# Altium footprint library ERN.PcbLib: 34 footprints (part 1 of 3)
Each footprint in its own frame and in the unit in brackets; x right, y up, seen from the top. Pads: shape width x height; smd on the part's side, far side on the other; paste and mask are expansions set on the pad; w line width, h text height; cw(c..) or ccw(c..) is an arc to the next point about the centre after c.
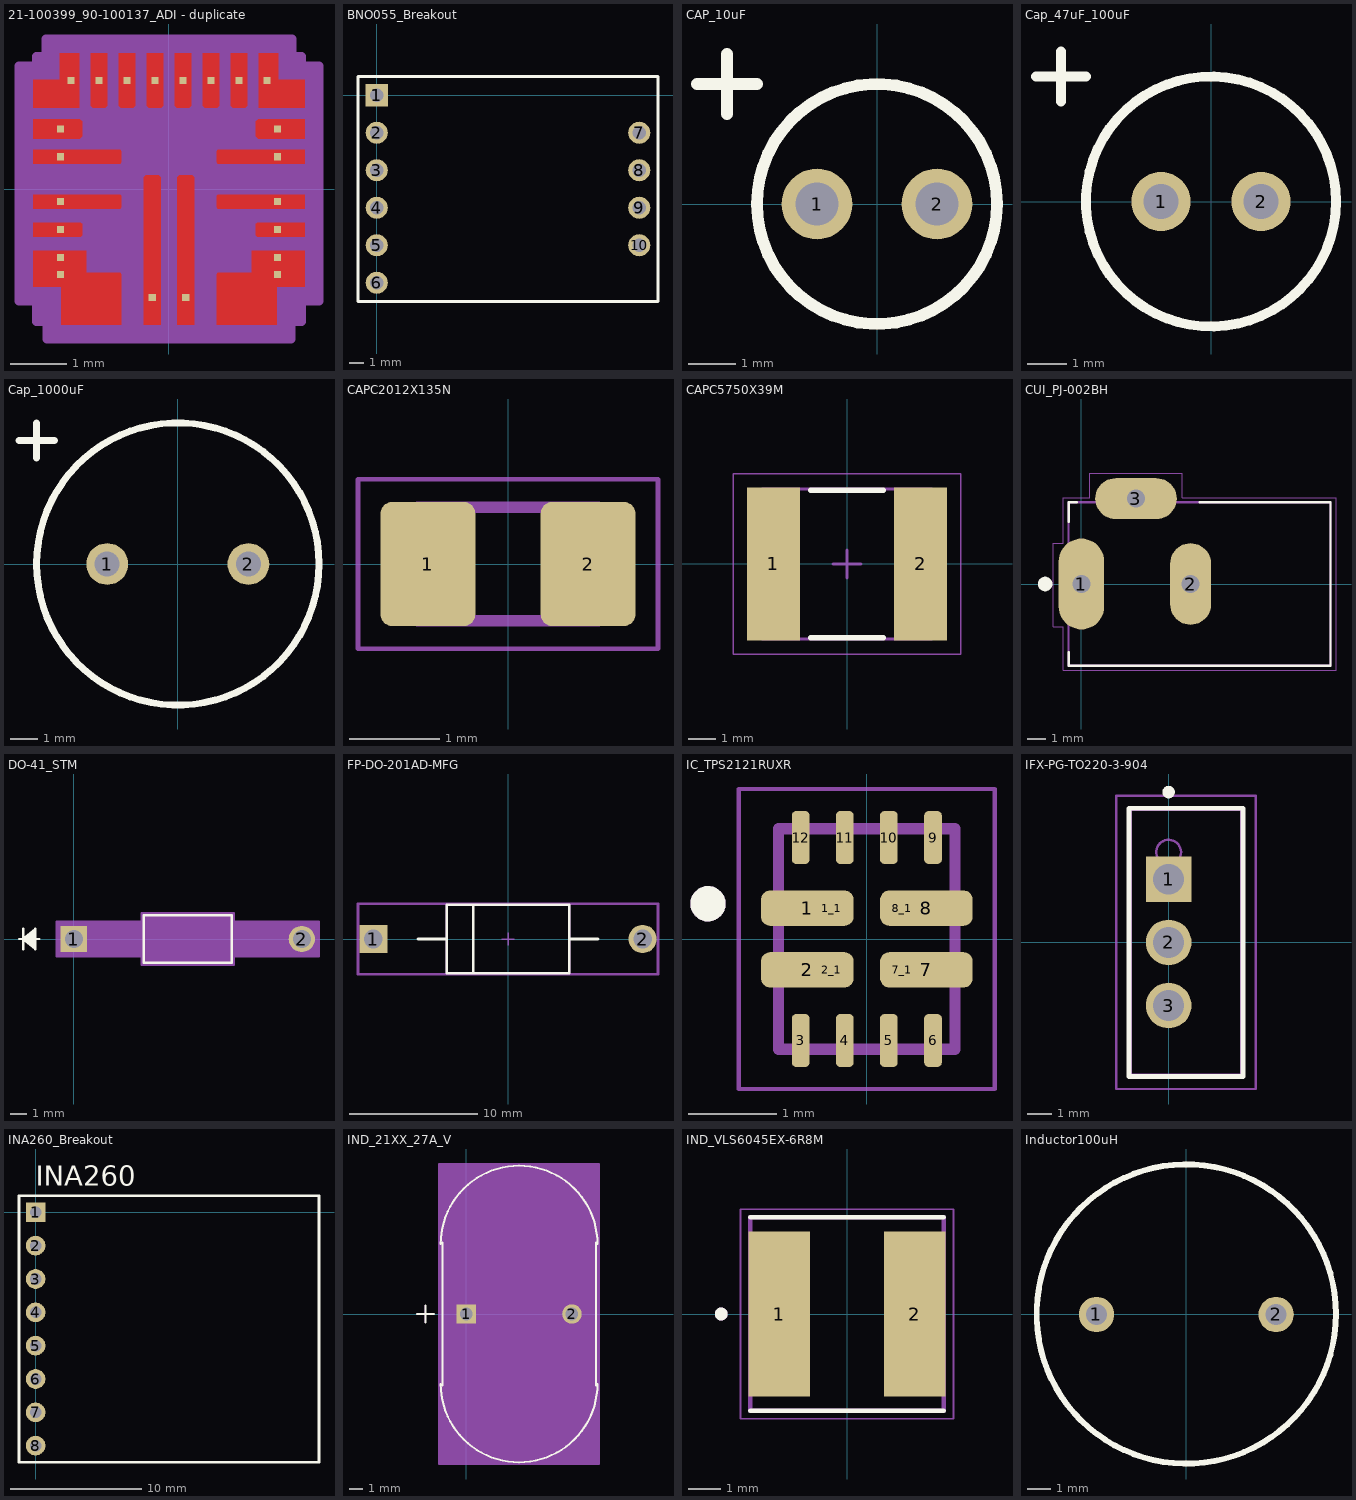
[diagram p0: the footprints below, top view; thin cyan lines are the x and y axes]

## 21-100399_90-100137_ADI - duplicate [mil]
pads (22):
  rect 5x5 smd paste-2.5 mask-2.5: 1(-76.28,42.32) 2(-76.28,22.64) 3(-76.28,-8.86) 4(-76.28,-28.54) 5(-76.28,-48.23) 6(-76.28,-60.04) 7(-11.81,-76.28) 8(11.81,-76.28) 9(76.28,-60.04) 10(76.28,-48.23) 11(76.28,-28.54) 12(76.28,-8.86) 13(76.28,22.64) 14(76.28,42.32) 15(68.9,76.28) 16(49.21,76.28) 17(29.53,76.28) 18(9.84,76.28) 19(-9.84,76.28) 20(-29.53,76.28) 21(-49.21,76.28) 22(-68.9,76.28)
Top Layer:
  region: -58.07,-43.31 -95.47,-43.31 -95.47,-68.9 -75.79,-68.9 -75.79,-95.47 -33.46,-95.47 -33.46,-60.04 -34.45,-59.06 -58.07,-59.06
  region: 62.01,-23.62 95.47,-23.62 95.47,-33.46 62.01,-33.46 61.02,-32.48 61.02,-24.61
  region: -34.45,27.56 -95.47,27.56 -95.47,17.72 -34.45,17.72 -33.46,18.7 -33.46,26.57
  region: -62.01,-23.62 -95.47,-23.62 -95.47,-33.46 -62.01,-33.46 -61.02,-32.48 -61.02,-24.61
  region: -62.75,49.21 -95.47,49.21 -95.47,35.43 -62.75,35.43 -61.02,37.16 -61.02,47.49
  region: -76.77,76.77 -76.77,95.47 -62.99,95.47 -62.99,57.09 -95.47,57.09 -95.47,76.77
  region: 34.45,-3.94 95.47,-3.94 95.47,-13.78 34.45,-13.78 33.46,-12.8 33.46,-4.92
  region: -34.45,-3.94 -95.47,-3.94 -95.47,-13.78 -34.45,-13.78 -33.46,-12.8 -33.46,-4.92
  region: 34.45,27.56 95.47,27.56 95.47,17.72 34.45,17.72 33.46,18.7 33.46,26.57
  region: 62.75,49.21 95.47,49.21 95.47,35.43 62.75,35.43 61.02,37.16 61.02,47.49
  region: 76.77,76.77 76.77,95.47 62.99,95.47 62.99,57.09 95.47,57.09 95.47,76.77
  region: 55.12,58.56 55.12,95.47 43.31,95.47 43.31,58.56 44.78,57.09 53.64,57.09
  region: 35.43,58.56 35.43,95.47 23.62,95.47 23.62,58.56 25.1,57.09 33.96,57.09
  region: 15.75,58.56 15.75,95.47 3.94,95.47 3.94,58.56 5.41,57.09 14.27,57.09
  region: -3.94,58.56 -3.94,95.47 -15.75,95.47 -15.75,58.56 -14.27,57.09 -5.41,57.09
  region: -17.72,8.37 -17.72,-95.47 -5.91,-95.47 -5.91,8.37 -7.38,9.84 -16.24,9.84
  region: -23.62,58.56 -23.62,95.47 -35.43,95.47 -35.43,58.56 -33.96,57.09 -25.1,57.09
  region: 5.91,8.37 5.91,-95.47 17.72,-95.47 17.72,8.37 16.24,9.84 7.38,9.84
  region: -43.31,58.56 -43.31,95.47 -55.12,95.47 -55.12,58.56 -53.64,57.09 -44.78,57.09
  region: 58.07,-43.31 95.47,-43.31 95.47,-68.9 75.79,-68.9 75.79,-95.47 33.46,-95.47 33.46,-60.04 34.45,-59.06 58.07,-59.06
Top Paste:
  region: -62.75,49.21 -95.47,49.21 -95.47,35.43 -62.75,35.43 -61.02,37.16 -61.02,47.49
  region: -34.45,27.56 -95.47,27.56 -95.47,17.72 -34.45,17.72 -33.46,18.7 -33.46,26.57
  region: -34.45,-3.94 -95.47,-3.94 -95.47,-13.78 -34.45,-13.78 -33.46,-12.8 -33.46,-4.92
  region: -62.01,-23.62 -95.47,-23.62 -95.47,-33.46 -62.01,-33.46 -61.02,-32.48 -61.02,-24.61
  region: -58.07,-43.31 -95.47,-43.31 -95.47,-68.9 -75.79,-68.9 -75.79,-95.47 -33.46,-95.47 -33.46,-60.04 -34.45,-59.06 -58.07,-59.06
  region: -17.72,8.37 -17.72,-95.47 -5.91,-95.47 -5.91,8.37 -7.38,9.84 -16.24,9.84
  region: 5.91,8.37 5.91,-95.47 17.72,-95.47 17.72,8.37 16.24,9.84 7.38,9.84
  region: 58.07,-43.31 95.47,-43.31 95.47,-68.9 75.79,-68.9 75.79,-95.47 33.46,-95.47 33.46,-60.04 34.45,-59.06 58.07,-59.06
  region: 62.01,-23.62 95.47,-23.62 95.47,-33.46 62.01,-33.46 61.02,-32.48 61.02,-24.61
  region: 34.45,-3.94 95.47,-3.94 95.47,-13.78 34.45,-13.78 33.46,-12.8 33.46,-4.92
  region: 34.45,27.56 95.47,27.56 95.47,17.72 34.45,17.72 33.46,18.7 33.46,26.57
  region: 62.75,49.21 95.47,49.21 95.47,35.43 62.75,35.43 61.02,37.16 61.02,47.49
  region: 76.77,76.77 76.77,95.47 62.99,95.47 62.99,57.09 95.47,57.09 95.47,76.77
  region: 55.12,58.56 55.12,95.47 43.31,95.47 43.31,58.56 44.78,57.09 53.64,57.09
  region: 35.43,58.56 35.43,95.47 23.62,95.47 23.62,58.56 25.1,57.09 33.96,57.09
  region: 15.75,58.56 15.75,95.47 3.94,95.47 3.94,58.56 5.41,57.09 14.27,57.09
  region: -3.94,58.56 -3.94,95.47 -15.75,95.47 -15.75,58.56 -14.27,57.09 -5.41,57.09
  region: -23.62,58.56 -23.62,95.47 -35.43,95.47 -35.43,58.56 -33.96,57.09 -25.1,57.09
  region: -43.31,58.56 -43.31,95.47 -55.12,95.47 -55.12,58.56 -53.64,57.09 -44.78,57.09
  region: -76.77,76.77 -76.77,95.47 -62.99,95.47 -62.99,57.09 -95.47,57.09 -95.47,76.77
Top Solder:
  region: -62.75,49.21 -95.47,49.21 -95.47,35.43 -62.75,35.43 -61.02,37.16 -61.02,47.49
  region: -34.45,27.56 -95.47,27.56 -95.47,17.72 -34.45,17.72 -33.46,18.7 -33.46,26.57
  region: -34.45,-3.94 -95.47,-3.94 -95.47,-13.78 -34.45,-13.78 -33.46,-12.8 -33.46,-4.92
  region: -62.01,-23.62 -95.47,-23.62 -95.47,-33.46 -62.01,-33.46 -61.02,-32.48 -61.02,-24.61
  region: -58.07,-43.31 -95.47,-43.31 -95.47,-68.9 -75.79,-68.9 -75.79,-95.47 -33.46,-95.47 -33.46,-60.04 -34.45,-59.06 -58.07,-59.06
  region: -17.72,8.37 -17.72,-95.47 -5.91,-95.47 -5.91,8.37 -7.38,9.84 -16.24,9.84
  region: 5.91,8.37 5.91,-95.47 17.72,-95.47 17.72,8.37 16.24,9.84 7.38,9.84
  region: 58.07,-43.31 95.47,-43.31 95.47,-68.9 75.79,-68.9 75.79,-95.47 33.46,-95.47 33.46,-60.04 34.45,-59.06 58.07,-59.06
  region: 62.01,-23.62 95.47,-23.62 95.47,-33.46 62.01,-33.46 61.02,-32.48 61.02,-24.61
  region: 34.45,-3.94 95.47,-3.94 95.47,-13.78 34.45,-13.78 33.46,-12.8 33.46,-4.92
  region: 34.45,27.56 95.47,27.56 95.47,17.72 34.45,17.72 33.46,18.7 33.46,26.57
  region: 62.75,49.21 95.47,49.21 95.47,35.43 62.75,35.43 61.02,37.16 61.02,47.49
  region: 76.77,76.77 76.77,95.47 62.99,95.47 62.99,57.09 95.47,57.09 95.47,76.77
  region: 55.12,58.56 55.12,95.47 43.31,95.47 43.31,58.56 44.78,57.09 53.64,57.09
  region: 35.43,58.56 35.43,95.47 23.62,95.47 23.62,58.56 25.1,57.09 33.96,57.09
  region: 15.75,58.56 15.75,95.47 3.94,95.47 3.94,58.56 5.41,57.09 14.27,57.09
  region: -3.94,58.56 -3.94,95.47 -15.75,95.47 -15.75,58.56 -14.27,57.09 -5.41,57.09
  region: -23.62,58.56 -23.62,95.47 -35.43,95.47 -35.43,58.56 -33.96,57.09 -25.1,57.09
  region: -43.31,58.56 -43.31,95.47 -55.12,95.47 -55.12,58.56 -53.64,57.09 -44.78,57.09
  region: -76.77,76.77 -76.77,95.47 -62.99,95.47 -62.99,57.09 -95.47,57.09 -95.47,76.77
Mechanical 13:
  lines w1: -83.5,33.5 -33.5,83.5 ; -83.5,-83.5 -83.5,83.5 83.5,83.5 83.5,-83.5 -83.5,-83.5
Mechanical 15:
  region: -105.47,37.56 -105.47,7.72 -93.5,7.72 -93.5,6.06 -105.47,6.06 -105.47,-33.31 -105.47,-78.9 -93.5,-78.9 -93.5,-93.5 -85.79,-93.5 -85.79,-105.47 -23.46,-105.47 27.72,-105.47 85.79,-105.47 85.79,-93.5 93.5,-93.5 93.5,-78.9 105.47,-78.9 105.47,-43.46 105.47,6.06 93.5,6.06 93.5,7.72 105.47,7.72 105.47,37.56 105.47,59.21 105.47,86.77 93.5,86.77 93.5,93.5 86.77,93.5 86.77,105.47 52.99,105.47 -52.99,105.47 -86.77,105.47 -86.77,93.5 -93.5,93.5 -93.5,86.77 -105.47,86.77
  lines w6: 105.47,-43.46 105.47,6.06 93.5,6.06 93.5,7.72 105.47,7.72 105.47,37.56 ; 105.47,-43.46 105.47,-43.46 ; 105.47,-43.46 105.47,-78.9 93.5,-78.9 93.5,-93.5 85.79,-93.5 85.79,-105.47 27.72,-105.47 -23.46,-105.47 -85.79,-105.47 -85.79,-93.5 -93.5,-93.5 -93.5,-78.9 -105.47,-78.9 -105.47,-33.31 -105.47,6.06 -93.5,6.06 -93.5,7.72 -105.47,7.72 -105.47,37.56 -105.47,86.77 -93.5,86.77 -93.5,93.5 -86.77,93.5 -86.77,105.47 -52.99,105.47 52.99,105.47 86.77,105.47 86.77,93.5 93.5,93.5 93.5,86.77 105.47,86.77 105.47,59.21 105.47,37.56 ; 105.47,37.56 105.47,37.56

## BNO055_Breakout [mm]
pads (10):
  rect 1.5x1.5 hole 0.9: 1(0,0)
  round 1.5 hole 0.9: 2(0,-2.54) 3(0,-5.08) 4(0,-7.62) 5(0,-10.16) 6(0,-12.7) 7(17.78,-2.54) 8(17.78,-5.08) 9(17.78,-7.62) 10(17.78,-10.16)
Top Overlay:
  lines w0.2: -1.27,-13.97 -1.27,1.27 19.05,1.27 19.05,-13.97 -1.27,-13.97

## CAP_10uF [mm] "10uF Electrolytic Capacitor"
pads (2):
  round 1.5 hole 0.9: 1(-1.27,0) 2(1.27,0)
Top Overlay:
  circle w0.25: c0,0 r2.54
  lines w0.254: -3.81,2.54 -2.54,2.54 ; -3.175,1.905 -3.175,3.175
Mechanical 1:
  circle w0.02: c0,0 r2.54

## Cap_47uF_100uF [mm] "47uF or 100uF Electrolytic Capacitor"
pads (2):
  round 1.5 hole 0.9: 1(-1.27,0) 2(1.27,0)
Top Overlay:
  circle w0.25: c0,0 r3.175
  lines w0.254: -4.445,3.175 -3.175,3.175 ; -3.81,2.54 -3.81,3.81
Mechanical 1:
  circle w0.02: c0,0 r3.175

## Cap_1000uF [mm] "100uF Electrolytic Capacitor"
pads (2):
  round 1.5 hole 0.9: 1(-2.54,0) 2(2.54,0)
Top Overlay:
  circle w0.25: c0,0 r5.08
  lines w0.254: -5.715,4.445 -4.445,4.445 ; -5.08,3.81 -5.08,5.08
Mechanical 1:
  circle w0.02: c0,0 r5.08

## CAPC2012X135N [mm]
pads (2):
  rrect25% 1.05x1.38 smd paste+0 mask+0.102: 1(-0.888,0) 2(0.888,0)
Mechanical 13:
  lines w0.127: -1,-0.63 1,-0.63 1,0.63 -1,0.63 -1,-0.63
Mechanical 15:
  lines w0.05: -1.663,-0.94 1.663,-0.94 1.663,0.94 -1.663,0.94 -1.663,-0.94
3D body "step_temp.STEP": height 1.35, standoff 0, extent -1,-0.625 1,0.625

## CAPC5750X39M [mm] "Chip Capacitor, 2-Leads, Body 5.70x5.00mm, IPC Low Density"
height 3.9
pads (2):
  rect 1.9x5.5 smd: 1(-2.65,0) 2(2.65,0)
Top Overlay:
  lines w0.2: -1.3,-2.65 1.3,-2.65 ; -1.3,2.65 1.3,2.65
Mechanical 13:
  lines w0.1: -3.05,-2.7 -3.05,2.7 3.05,2.7 3.05,-2.7 -3.05,-2.7
Mechanical 15:
  lines w0.05: -4.1,-3.25 -4.1,3.25 4.1,3.25 4.1,-3.25 -4.1,-3.25
  lines w0.1: -0.5,0 0.5,0 ; 0,-0.5 0,0.5
3D body "CAPC5750X39M.step": height 3.9, standoff 0, extent -3.05,-2.7 3.05,2.7

## CUI_PJ-002BH [mm]
pads (3):
  oval 2.5x5 hole 1 square: 1(0,0)
  oval 2.25x4.5 hole 1 square: 2(6,0)
  oval 4.5x2.25 hole 1 square: 3(3,4.7)
Top Overlay:
  circle w0.4: c-2,0 r0.2
  lines w0.127: -0.7,-3.759 -0.7,-4.5 13.7,-4.5 13.7,4.5 6.502,4.5 ; -0.7,3.429 -0.7,4.5 -0.254,4.5
Mechanical 13:
  lines w0.127: -0.711,-4.5 13.7,-4.5 13.7,4.496 -0.711,4.496 -0.711,-4.5
Mechanical 15:
  lines w0.05: -1.55,-2.35 -1.55,2.25 -1,2.25 -1,4.75 0.45,4.75 0.45,6.1 5.55,6.1 5.55,4.75 14,4.75 14,-4.75 -1,-4.75 -1,-2.35 -1.55,-2.35
3D body "step_temp.STEP": height 4.5, standoff -10, extent -0.635,-4.7 13.765,4.7

## DO-41_STM [mil]
pads (2):
  rect 64x64 hole 44 paste-99999 mask+0: 1(0,0)
  round 64 hole 44 paste-99999 mask+0: 2(557,0)
Top Overlay:
  lines w6: -134,0 -84,0 ; -124,-25 -124,25 ; -94,-20 -124,0 ; -94,-15 -124,0 ; -94,-10 -124,0 ; -94,-5 -124,0 ; -94,5 -124,0 ; -94,10 -124,0 ; -94,15 -124,0 ; -94,20 -124,0 ; -124,0 -94,25 -94,-25 -124,0 ; 171,-58 386,-58 386,58 171,58 171,-58
  text ".Designator" at 141,-25 h50
Mechanical 13:
  lines w1: -134,0 -84,0 ; -124,-25 -124,25 ; -94,-20 -124,0 ; -94,-15 -124,0 ; -94,-10 -124,0 ; -94,-5 -124,0 ; -94,5 -124,0 ; -94,10 -124,0 ; -94,15 -124,0 ; -94,20 -124,0 ; 0,0 176,0 ; 381,0 557,0 ; -124,0 -94,25 -94,-25 -124,0 ; 176,-53 381,-53 381,53 176,53 176,-53
  text ".Designator" at 141,-25 h50
Mechanical 15:
  region: 166,-42 -42,-42 -42,42 166,42 166,63 391,63 391,42 599,42 599,-42 391,-42 391,-63 166,-63
  region: 381,-53 176,-53 176,53 381,53
  lines w6: -42,-42 -42,42 166,42 166,63 391,63 391,42 599,42 599,-42 391,-42 391,-63 166,-63 166,-42 -42,-42
3D body "DO-41_STM.step": height 106.06, standoff -100, extent -17.01,-52.71 574.02,52.71

## FP-DO-201AD-MFG [mm]
pads (2):
  rect 2.2x2.2 hole 1.45 paste-2539.97 mask+0: 1(-10.47,0)
  round 2.2 hole 1.45 paste-2539.97 mask+0: 2(10.47,0)
Top Overlay:
  lines w0.2: -7,0 -4.75,0 ; -2.7,-2.5 -2.7,2.5 ; 4.75,0 7,0 ; -4.75,-2.65 -4.75,2.65 4.75,2.65 4.75,-2.65 -4.75,-2.65
Top 3D Body:
  lines w0.2: -4.75,-2.65 -4.75,2.65 4.75,2.65 4.75,-2.65 -4.75,-2.65
Top Courtyard:
  lines w0.2: -11.67,-2.75 -11.67,2.75 11.67,2.75 11.67,-2.75 -11.67,-2.75
Top Assembly:
  lines w0.2: -11.67,-2.75 -11.67,2.75 11.67,2.75 11.67,-2.75 -11.67,-2.75
  text ".Designator" at 0,0.187 h1
Top Component Center:
  lines w0.1: -0.5,0 0.5,0 ; 0,-0.5 0,0.5
3D body "Diode_STMicroelectronics_1N5822_eec.STEP": height 0.25, standoff 0, extent -11.67,-2.75 11.67,2.75

## IC_TPS2121RUXR [mm]
pads (16):
  rrect50% 1.05x0.4 smd mask+0: 1(-0.675,0.35) 2(-0.675,-0.35) 7(0.675,-0.35) 8(0.675,0.35)
  round 0.3 smd mask+0: 1_1(-0.4,0.35) 2_1(-0.4,-0.35) 7_1(0.4,-0.35) 8_1(0.4,0.35)
  rrect50% 0.2x0.6 smd mask+0: 3(-0.75,-1.15) 4(-0.25,-1.15) 5(0.25,-1.15) 6(0.75,-1.15) 9(0.75,1.15) 10(0.25,1.15) 11(-0.25,1.15) 12(-0.75,1.15)
Top Overlay:
  circle w0.2: c-1.8,0.4 r0.1
Top Solder:
  region: -0.1,0.1 -1.25,0.1 -1.25,0.6 -0.1,0.6
  region: 1.25,0.1 0.1,0.1 0.1,0.6 1.25,0.6
  region: -0.1,-0.6 -1.25,-0.6 -1.25,-0.1 -0.1,-0.1
  region: -0.1,0.8 -0.4,0.8 -0.4,1.5 -0.1,1.5
  region: 0.4,0.8 0.1,0.8 0.1,1.5 0.4,1.5
  region: -0.1,-1.5 -0.4,-1.5 -0.4,-0.8 -0.1,-0.8
  region: 0.4,-1.5 0.1,-1.5 0.1,-0.8 0.4,-0.8
  region: -0.6,-1.5 -0.9,-1.5 -0.9,-0.8 -0.6,-0.8
  region: 0.9,-1.5 0.6,-1.5 0.6,-0.8 0.9,-0.8
  region: -0.6,0.8 -0.9,0.8 -0.9,1.5 -0.6,1.5
  region: 0.9,0.8 0.6,0.8 0.6,1.5 0.9,1.5
  region: 1.25,-0.6 0.1,-0.6 0.1,-0.1 1.25,-0.1
Mechanical 13:
  circle w0.2: c-1.8,0.4 r0.1
  lines w0.127: -1,-1.25 -1,1.25 1,1.25 1,-1.25 -1,-1.25
Mechanical 15:
  lines w0.05: -1.45,-1.7 -1.45,1.7 1.45,1.7 1.45,-1.7 -1.45,-1.7
3D body "step_temp.STEP": height 1, standoff 0, extent -1,-1.25 1,1.25

## IFX-PG-TO220-3-904 [mm] "TO,flange mount,2.54mm pitch;3 pin,4.45mm L X 10.66mm W X 19.15mm H body"
height 19.15
pads (3):
  rect 1.84x1.84 hole 1.24 paste-2539.97 mask+0: 1(0,2.54)
  round 1.84 hole 1.24 paste-2539.97 mask+0: 2(0,0) 3(0,-2.54)
Top Overlay:
  circle w0.25: c0,6.05 r0.125
  lines w0.2: -1.6,-5.4 -1.6,5.4 3,5.4 3,-5.4 -1.6,-5.4
Mechanical 3:
  text ".DESIGNATOR" at 0,0 h1.2
Mechanical 13:
  circle w0.1: c0,3.632 r0.5
  lines w0.1: -1.52,-5.33 -1.52,5.33 2.93,5.33 2.93,-5.33 -1.52,-5.33
Mechanical 15:
  lines w0.1: -0.5,0 0.5,0 ; 0,-0.5 0,0.5 ; -2.1,-5.9 -2.1,5.9 3.5,5.9 3.5,-5.9 -2.1,-5.9
3D body "PG-TO220-3-904_Z8B00185321_V03_3D.stp": height 19.1, standoff -9.85, extent -1.53,-5.33 2.93,5.33

## INA260_Breakout [mm] "Adafruit INA260 Voltage/Current Sensor Breakout"
pads (8):
  rect 1.5x1.5 hole 0.9: 1(0,0)
  round 1.5 hole 0.9: 2(0,-2.54) 3(0,-5.08) 4(0,-7.62) 5(0,-10.16) 6(0,-12.7) 7(0,-15.24) 8(0,-17.78)
Top Overlay:
  lines w0.2: -1.27,-19.05 21.59,-19.05 21.59,1.27 -1.27,1.27 -1.27,-19.05
  text "INA260" at 0,2.032 h1.52

## IND_21XX_27A_V [mil]
pads (2):
  rect 57x57 hole 37 paste-99999 mask+0: 1(0,0)
  round 57 hole 37 paste-99999 mask+0: 2(310,0)
Top Overlay:
  lines w6: -145,0 -95,0 ; -120,-25 -120,25 ; -75,-205 ccw(c155,-205) 385,-205 ; -75,205 cw(c155,205) 385,205 ; -70,-210 -70,210 ; 380,-210 380,210
  text ".Designator" at -125,470 h50
Mechanical 13:
  lines w1: -145,0 -95,0 ; -120,-25 -120,25 ; -70,-205 ccw(c155,-205) 380,-205 380,205 ccw(c155,205) -70,205 -70,-205
  text ".Designator" at -125,470 h50
Mechanical 15:
  region: 390,-440 -80,-440 -80,440 390,440
  lines w6: -80,-440 -80,440 390,440 390,-440 -80,-440

## IND_VLS6045EX-6R8M [mm]
height 4.5
pads (2):
  rect 1.9x5.1 smd: 1(-2.1,0) 2(2.1,0)
Top Overlay:
  circle w0.2: c-3.9,0 r0.1
  lines w0.127: -3,-3 3,-3 ; -3,3 3,3
Mechanical 13:
  circle w0.2: c-3.9,0 r0.1
  lines w0.127: -3,-3 -3,3 3,3 3,-3 -3,-3
Mechanical 15:
  lines w0.05: -3.3,-3.25 -3.3,3.25 3.3,3.25 3.3,-3.25 -3.3,-3.25
3D body "step_temp.STEP": height 4.5, standoff 0, extent -3,-3 3,3

## Inductor100uH [mm]
pads (2):
  round 1.5 hole 0.9: 1(-3.81,0) 2(3.81,0)
Top Overlay:
  circle w0.25: c0,0.02 r6.35
Mechanical 1:
  circle w0.02: c-0.026,0.02 r6.35